# EAGLE library part HEADER_2X6 (library 1)
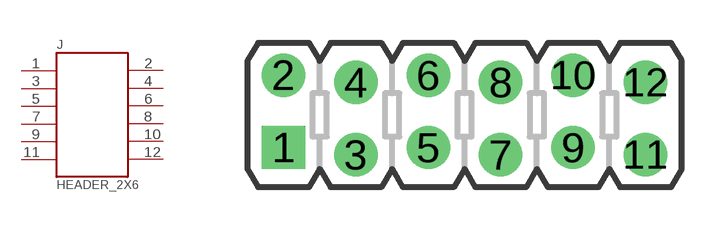
[diagram p52: symbol with the pads of 2X6_TH_OFF; footprint 2X6_TH_OFF]

Designator prefix J

## HEADER_2X6  [2X6_TH_OFF]
1  1
2  2
3  3
4  4
5  5
6  6
7  7
8  8
9  9
10  10
11  11
12  12

## Footprint 2X6_TH_OFF (pad centres in mm)
0.1" 2x6 Header, Offset
drill 0.914 pad 1.524 square: 1 -6.35,-1.143
drill 0.914 pad 1.524: 2 -6.35,1.397; 3 -3.81,-1.397; 4 -3.81,1.143; 5 -1.27,-1.143; 6 -1.27,1.397; 7 1.27,-1.397; 8 1.27,1.143; 9 3.81,-1.143; 10 3.81,1.397; 11 6.35,-1.397; 12 6.35,1.143